# EAGLE library part 14_SEGMENT_DISPLAY (library Headers)
Kingbright 9.9mm 14 Segment Alphanumeric Display
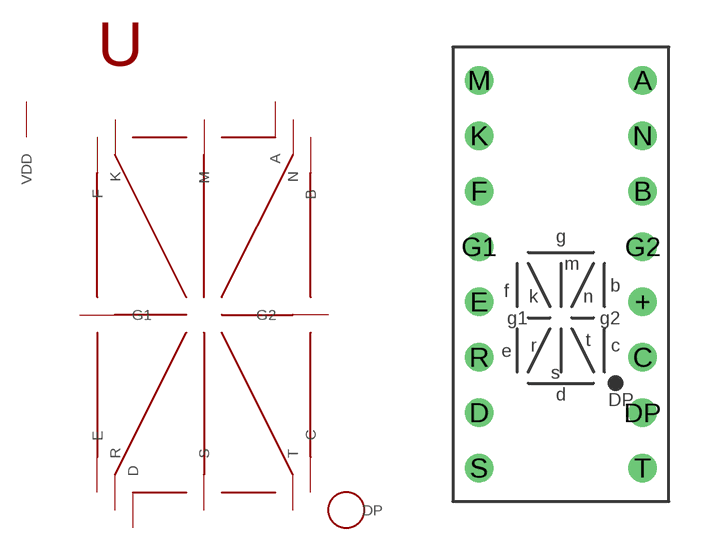
[diagram p2: symbol with the pads of 14_SEGMENT_DISPLAY; footprint 14_SEGMENT_DISPLAY]

Designator prefix -

## 14_SEGMENT_DISPLAY  [14_SEGMENT_DISPLAY]
+  VDD
A  A
B  B
C  C
D  D
DP  DP
E  E
F  F
G1  G1
G2  G2
K  K
M  M
N  N
R  R
S  S
T  T

## Footprint 14_SEGMENT_DISPLAY (pad centres in mm)
Kingbright 9.9mm 14 Segment Single Digit Alphanumeric Display
drill 0.8: + 3.75,-1.27; A 3.75,8.89; B 3.75,3.81; C 3.75,-3.81; D -3.75,-6.35; DP 3.75,-6.35; E -3.75,-1.27; F -3.75,3.81; G1 -3.75,1.27; G2 3.75,1.27; K -3.75,6.35; M -3.75,8.89; N 3.75,6.35; R -3.75,-3.81; S -3.75,-8.89; T 3.75,-8.89